# EAGLE library part STM32U031K8U6 (library STM32U031K8U6)
Ultra-low-power features (ultra-low-power devices) 1.71 V to 3.6 V power supply -40 C to 85/125 C temperature range VBAT mode: 130 nA (with RTC and 9 x 32-bit backup registers) Shutdown mode (4 wake-up pins): 16 nA Standby mode (4 wake-up pins): 160 nA with RTC, 30 nA without RTC Stop 2 mode: 630 nA with RTC, 515 nA without RTC Run mode (LDO mode): 52 uA/MHz Batch acquisition mode (BAM) 4 us wake-up from Stop mode Brownout reset (BOR) Source: Datasheet <https://www.st.com/resource/en/datasheet/stm32u031f4.pdf>
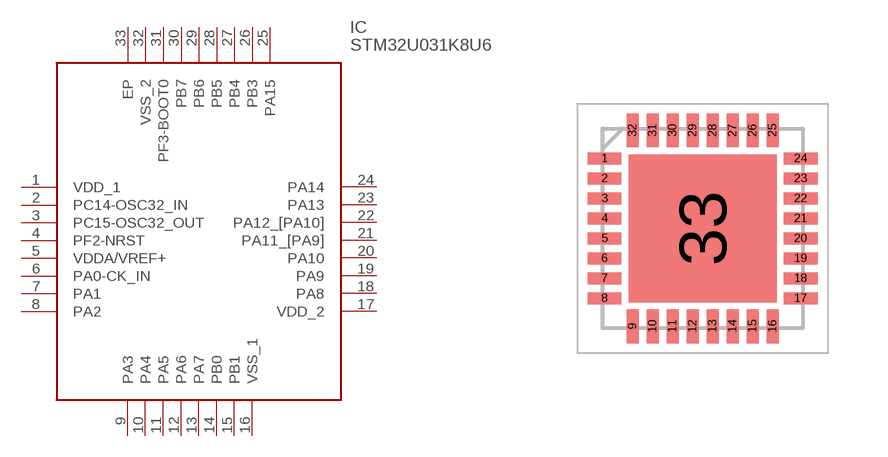
[diagram p0: symbol with the pads of QFN50P500X500X60-33N; footprint QFN50P500X500X60-33N]

Designator prefix IC

## STM32U031K8U6 (Description: Ultra-low-power features (ultra-low-power devices) 1.71 V to 3.6 V power supply -40 C to 85/125 C temperature range VBAT mode: 130 nA (with RTC and 9 x 32-bit backup registers) Shutdown mode (4 wake-up pins): 16 nA Standby mode (4 wake-up pins): 160 nA with RTC, 30 nA without RTC Stop 2 mode: 630 nA with RTC, 515 nA without RTC Run mode (LDO mode): 52 uA/MHz Batch acquisition mode (BAM) 4 us wake-up from Stop mode Brownout reset (BOR); Height: 0.6mm; Manufacturer_Name: STMicroelectronics; Manufacturer_Part_Number: STM32U031K8U6; Mouser_Part_Number: 511-STM32U031K8U6; Mouser_Price-Stock: https://www.mouser.co.uk/ProductDetail/STMicroelectronics/STM32U031K8U6?qs=dbcCsuKDzFUeNQ2GzBLCmw%3D%3D)  [QFN50P500X500X60-33N]
1  VDD_1
2  PC14-OSC32_IN
3  PC15-OSC32_OUT
4  PF2-NRST
5  VDDA/VREF+
6  PA0-CK_IN
7  PA1
8  PA2
9  PA3
10  PA4
11  PA5
12  PA6
13  PA7
14  PB0
15  PB1
16  VSS_1
17  VDD_2
18  PA8
19  PA9
20  PA10
21  PA11_[PA9]
22  PA12_[PA10]
23  PA13
24  PA14
25  PA15
26  PB3
27  PB4
28  PB5
29  PB6
30  PB7
31  PF3-BOOT0
32  VSS_2
33  EP

## Footprint QFN50P500X500X60-33N (pad centres in mm)
QFN
smd 0.85 x 0.3: 1 -2.45,1.75; 2 -2.45,1.25; 3 -2.45,0.75; 4 -2.45,0.25; 5 -2.45,-0.25; 6 -2.45,-0.75; 7 -2.45,-1.25; 8 -2.45,-1.75; 17 2.45,-1.75; 18 2.45,-1.25; 19 2.45,-0.75; 20 2.45,-0.25; 21 2.45,0.25; 22 2.45,0.75; 23 2.45,1.25; 24 2.45,1.75
smd 0.3 x 0.85: 9 -1.75,-2.45; 10 -1.25,-2.45; 11 -0.75,-2.45; 12 -0.25,-2.45; 13 0.25,-2.45; 14 0.75,-2.45; 15 1.25,-2.45; 16 1.75,-2.45; 25 1.75,2.45; 26 1.25,2.45; 27 0.75,2.45; 28 0.25,2.45; 29 -0.25,2.45; 30 -0.75,2.45; 31 -1.25,2.45; 32 -1.75,2.45
smd 3.7 x 3.7: 33 0,0